# Altium footprint library ATLAS_XP2V5_sredjen_bom.PcbLib: 50 footprints (part 3 of 4)
Each footprint in its own frame and in the unit in brackets; x right, y up, seen from the top. Pads: shape width x height; smd on the part's side, far side on the other; paste and mask are expansions set on the pad; w line width, h text height; cw(c..) or ccw(c..) is an arc to the next point about the centre after c.
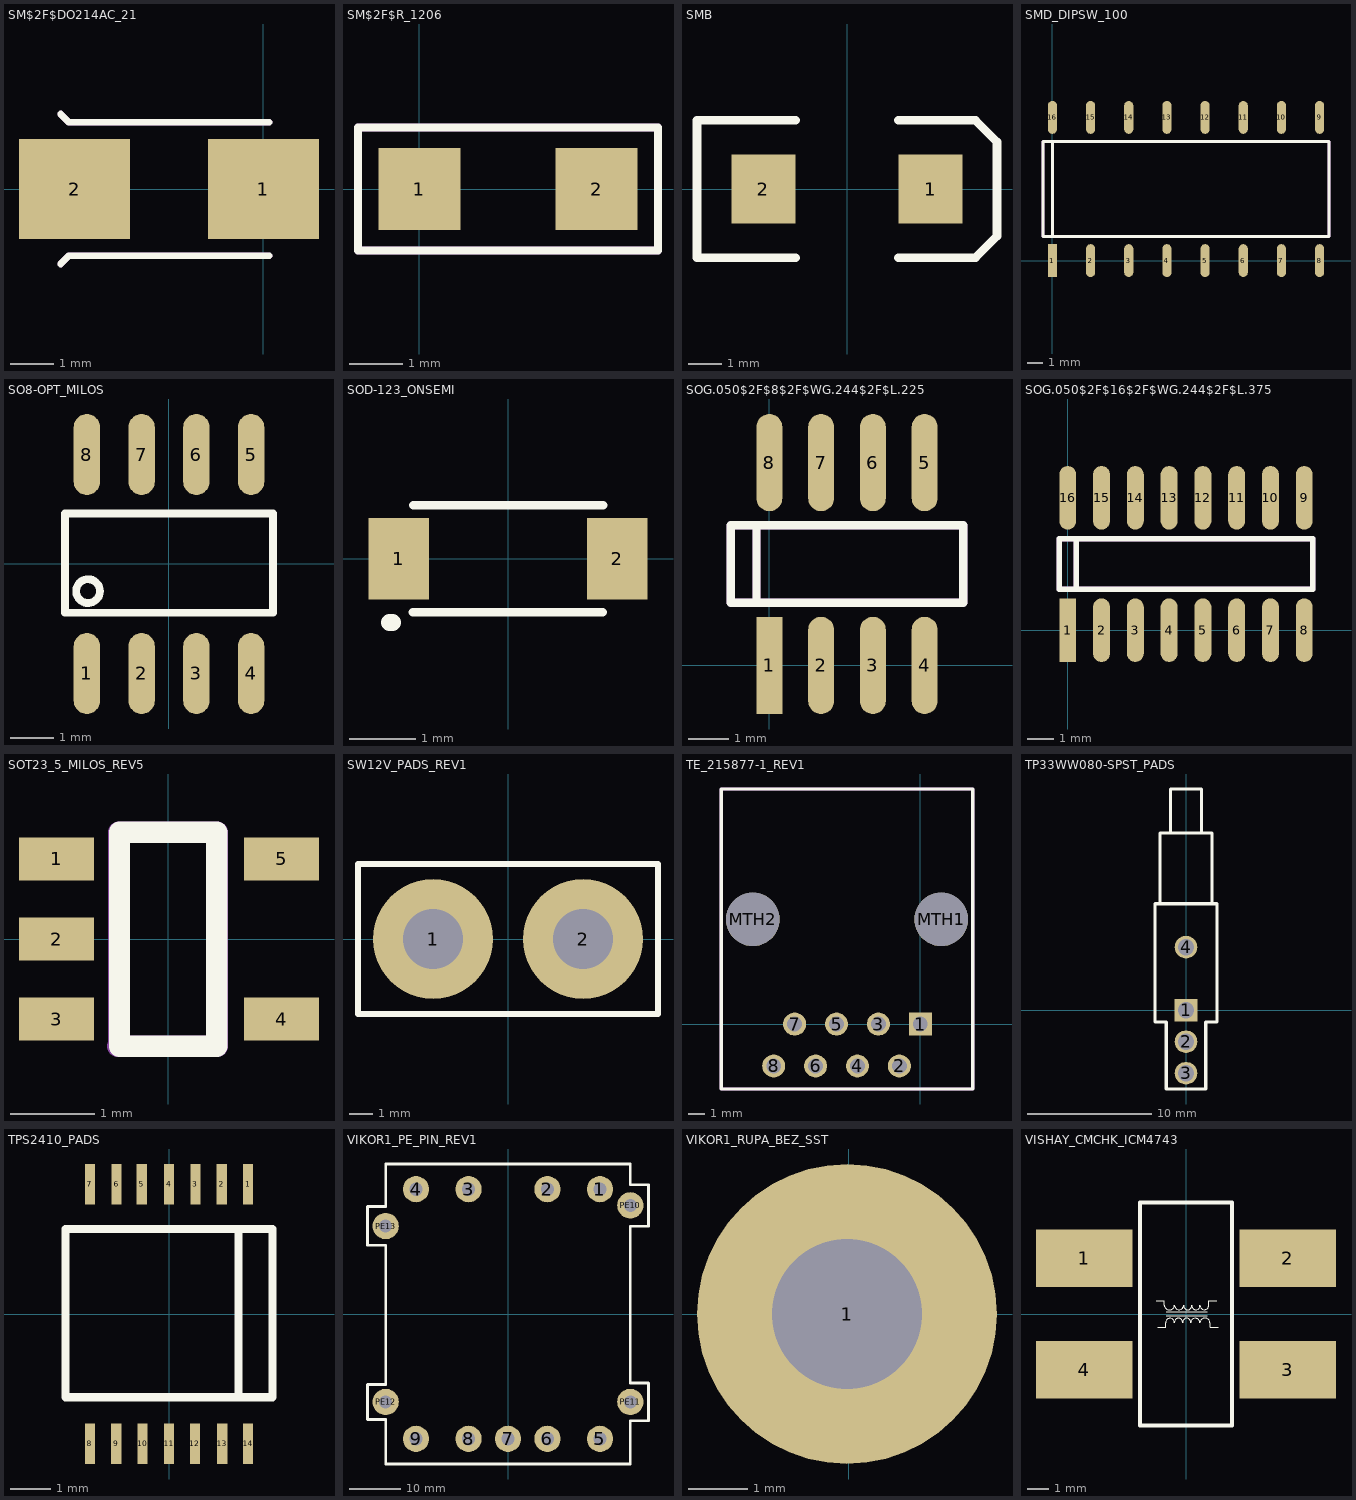
[diagram p2: the footprints below, top view; thin cyan lines are the x and y axes]

## SM$2F$DO214AC_21 [mil]
pads (2):
  rect 100x90 smd: 1(0,0) 2(-170,0)
Top Overlay:
  lines w6: -182.5,-67.5 -175,-60 5,-60 ; -182.5,67.5 -175,60 5,60
Mechanical 1:
  lines w6: -182.5,-67.5 -175,-60 5,-60 ; -182.5,67.5 -175,60 5,60
  text "D7" at -149.55,-20.45 h29

## SM$2F$R_1206 [mil]
pads (2):
  rect 60x60 smd: 1(0,0) 2(130,0)
Top Overlay:
  lines w6: -45,-45 175,-45 175,45 -45,45 -45,-45
Mechanical 1:
  lines w6: -45,-45 175,-45 175,45 -45,45 -45,-45
  text "R6" at 33.05,-88.21 h25.5

## SMB [mil]
height 96.46
pads (2):
  rect 75x80 smd: 1(97.5,0) 2(-97.5,0)
Top Overlay:
  lines w10: -60,-80 -175,-80 -175,80 -60,80 ; 60,-80 150,-80 175,-55 175,55 150,80 60,80

## SMD_DIPSW_100 [mil]
pads (16):
  rect 24x86 smd: 1(0,0)
  oval 24x86 smd: 2(100,0) 3(200,0) 4(300,0) 5(400,0) 6(500,0) 7(600,0) 8(700,0) 9(700,375) 10(600,375) 11(500,375) 12(400,375) 13(300,375) 14(200,375) 15(100,375) 16(0,375)
Top Overlay:
  lines w8: 0,62.5 0,312.5 ; -25,62.5 725,62.5 725,312.5 -25,312.5 -25,62.5
Mechanical 1:
  lines w8: 0,62.5 0,312.5 ; -25,62.5 -25,312.5 725,312.5 725,62.5 -25,62.5
  text "S2" at 775,143.75 h25.5

## SO8-OPT_MILOS [mil]
pads (8):
  oval 24x74 smd: 1(-75,-100) 2(-25,-100) 3(25,-100) 4(75,-100) 5(75,100) 6(25,100) 7(-25,100) 8(-75,100)
Top Overlay:
  circle w7: c-73.96,-24.76 r10.88
  lines w7: -95,-44.49 -95,46.06 95,46.06 95,-44.49 -95,-44.49
Mechanical 1:
  text "U6" at -111.76,149.3 h25.5

## SOD-123_ONSEMI [mm]
pads (2):
  rect 0.91x1.22 smd: 1(-1.637,0) 2(1.637,0)
Top Overlay:
  lines w0.127: -1.43,-0.8 1.42,-0.8 ; -1.42,0.8 1.43,0.8
  lines w0.254: -1.78,-0.956 -1.729,-0.956

## SOG.050$2F$8$2F$WG.244$2F$L.225 [mil]
pads (8):
  rect 25x94 smd: 1(0,0)
  oval 25x94 smd: 2(50,0) 3(100,0) 4(150,0) 5(150,196) 6(100,196) 7(50,196) 8(0,196)
Top Overlay:
  lines w8: -12.5,60.5 -12.5,135.5 ; -37.5,60.5 187.5,60.5 187.5,135.5 -37.5,135.5 -37.5,60.5
Mechanical 1:
  lines w8: -12.5,60.5 -12.5,135.5 ; -37.5,60.5 187.5,60.5 187.5,135.5 -37.5,135.5 -37.5,60.5
  text "US2" at 7.65,86.57 h25.5

## SOG.050$2F$16$2F$WG.244$2F$L.375 [mil]
pads (16):
  rect 25x94 smd: 1(0,0)
  oval 25x94 smd: 2(50,0) 3(100,0) 4(150,0) 5(200,0) 6(250,0) 7(300,0) 8(350,0) 9(350,196) 10(300,196) 11(250,196) 12(200,196) 13(150,196) 14(100,196) 15(50,196) 16(0,196)
Top Overlay:
  lines w8: 12.5,60.5 12.5,135.5 ; -12.5,60.5 362.5,60.5 362.5,135.5 -12.5,135.5 -12.5,60.5
Mechanical 1:
  lines w8: 12.5,60.5 12.5,135.5 ; -12.5,60.5 362.5,60.5 362.5,135.5 -12.5,135.5 -12.5,60.5
  text "US3" at 263.9,266.29 h25.5

## SOT23_5_MILOS_REV5 [mil]
pads (5):
  rect 35x20 smd paste-1.5: 1(-52.24,37.4) 2(-52.24,0) 3(-52.24,-37.4) 4(52.76,-37.4) 5(52.76,37.4)
Top Layer:
  text "U16" at -31.25,-100 h25.5
Top Overlay:
  lines w10: -22.83,-50.1 -22.83,49.9 22.44,49.9 22.44,-50.1 -21.26,-50.1
Mechanical 1:
  lines w10: -23.62,-50.1 22.83,-50.1 22.83,49.9 -23.23,49.9 -23.23,-50.1
  text "U16" at 0,356.09 h25.5

## SW12V_PADS_REV1 [mil]
pads (2):
  round 200 hole 100 mask+5: 1(-125,0) 2(125,0)
Top Layer:
  text "S1" at -175,-31.25 h25.5
  text "S1" at -10.21,146.25 h25.5
Top Overlay:
  lines w10: -250,-125 -250,125 250,125 250,-125 -250,-125
Mechanical 1:
  text "S1" at 0,356.09 h25.5

## TE_215877-1_REV1 [mil]
height 452.76
pads (10):
  rect 55x55 / inner round 55 / far side rect 55x55 hole 35.43: 1(0,0)
  round 55 hole 35.43: 2(-50,-100) 3(-100,0) 4(-150,-100) 5(-200,0) 6(-250,-100) 7(-300,0) 8(-350,-100)
  round 128 hole 128: MTH1(50,250) MTH2(-400,250)
Top Overlay:
  lines w8: 125,456 125,561.42 -475,561.42 -475,-155 125,-155 125,462.5
Mechanical 1:
  lines w8: 125,456 125,561.42 -475,561.42 -475,-155 125,-155 125,462.5
  text "J3" at -520.79,-93.12 h25.5

## TP33WW080-SPST_PADS [mil]
height 340.55
pads (4):
  rect 72x72 / inner round 72 / far side round 72 hole 52 mask+2.5: 1(0,0)
  round 72 hole 52 mask+2.5: 2(0,-100) 3(0,-200) 4(0,200)
Top Overlay:
  lines w10: -84.4,337.8 84.8,337.8 ; -51,562.5 48.2,562.5 ; -98.43,-37.5 -98.43,337.8 -82.68,337.8 -82.68,562.5 -49.21,562.5 -49.21,701.97 49.21,701.97 49.21,562.5 82.68,562.5 82.68,337.8 98.43,337.8 98.43,-37.5 62.5,-37.5 62.5,-250 -62.5,-250 -62.5,-37.5 -98.43,-37.5
Mechanical 1:
  text "U9" at 75,-137.5 h25.5

## TPS2410_PADS [mil]
pads (14):
  rect 9.83x39.37 smd paste-1.68: 1(76.53,126) 2(50.95,126) 3(25.35,126) 4(-0.23,126) 5(-26.62,126) 6(-51,126) 7(-77,126) 8(-77,-125.52) 9(-51.42,-125.52) 10(-25.83,-125.52) 11(-0.23,-125.52) 12(24.97,-125.52) 13(51.33,-125.52) 14(76.53,-125.52)
Top Overlay:
  lines w7.87: 67,-80.45 67,81 ; 100.15,82 100.15,-80.45 -100.62,-80.45 -100.62,82.53 100.15,82.53
Mechanical 1:
  text "U14" at -62.5,-168.75 h25.5

## VIKOR1_PE_PIN_REV1 [mm]
pads (13):
  round 5.08 hole 2.54 mask+0.127: 1(17.78,24.13) 2(7.62,24.13) 3(-7.62,24.13) 4(-17.78,24.13) 5(17.78,-24.13) 6(7.62,-24.13) 7(0,-24.13) 8(-7.62,-24.13) 9(-17.78,-24.13) PE10(23.65,21) PE11(23.65,-17) PE12(-23.65,-17) PE13(-23.65,17)
Top Overlay:
  lines w0.508: -27.16,-20.4 -23.65,-20.4 -23.65,-29 23.65,-29 23.65,-20.63 27.16,-20.63 27.16,-13.35 23.65,-13.35 23.65,16.97 27.16,16.97 27.16,24.99 23.65,24.99 23.65,29 -23.65,29 -23.65,20.79 -27.16,20.79 -27.16,13.32 -23.65,13.32 -23.65,-13.64 -27.16,-13.64 -27.16,-20.4

## VIKOR1_RUPA_BEZ_SST [mil]
pads (1):
  round 200 hole 100 mask+5: 1(-1,0)
Mechanical 1:
  text "J9" at 0,356.09 h42.5

## VISHAY_CMCHK_ICM4743 [mm]
height 6.3
pads (4):
  rect 4.5x2.7 smd: 1(-4.75,2.6) 2(4.75,2.6) 3(4.75,-2.6) 4(-4.75,-2.6)
Top Overlay:
  lines w0.025: -1.4,0.61 -1.01,0.61 -1.01,0.41 ccw(c-0.775,0.423) -0.54,0.41 ccw(c-0.325,0.415) -0.11,0.41 ccw(c0.08,0.389) 0.27,0.41 0.27,0.4 ccw(c0.46,0.39) 0.65,0.4 ccw(c0.855,0.407) 1.06,0.4 1.06,0.63 1.43,0.63 ; -1.32,-0.63 -0.95,-0.63 -0.95,-0.4 cw(c-0.745,-0.407) -0.54,-0.4 cw(c-0.35,-0.39) -0.16,-0.4 -0.16,-0.41 cw(c0.03,-0.389) 0.22,-0.41 cw(c0.435,-0.415) 0.65,-0.41 cw(c0.885,-0.423) 1.12,-0.41 1.12,-0.61 1.51,-0.61 ; -0.92,0.11 0.99,0.11 ; -0.91,-0.09 0.99,-0.09
  lines w0.2: -2.15,-5.2 -2.15,5.2 2.15,5.2 2.15,-5.2 -2.15,-5.2